# EAGLE library part XC9572XL/TQ100 (library Xilinx)
Xilinx XC9572XL CPLD in a TQ100 package
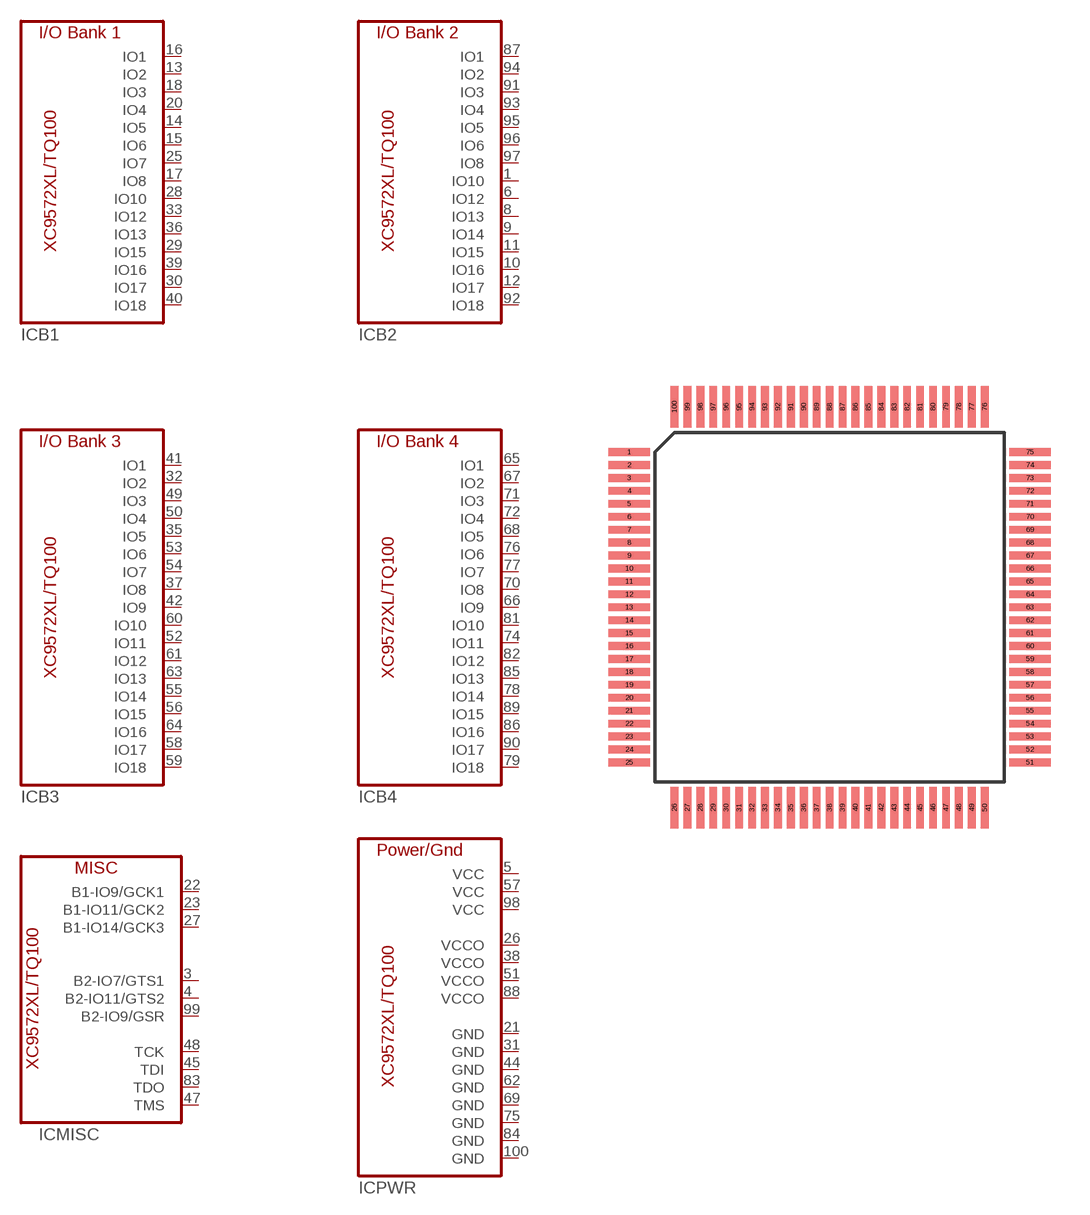
[diagram p28: symbol with the pads of TQ100; footprint TQ100]

Designator prefix IC; gates B1=XC9572XL/TQ100-B1 B2=XC9572XL/TQ100-B2 B3=XC9572XL/TQ100-B3 B4=XC9572XL/TQ100-B4 MISC=XC9572XL/TQ100-MISC PWR=XC9572XL/TQ100-PWR

## XC9572XL/TQ100  [TQ100]
1  B2:IO10
3  MISC:B2-IO7/GTS1
4  MISC:B2-IO11/GTS2
5  PWR:VCC
6  B2:IO12
8  B2:IO13
9  B2:IO14
10  B2:IO16
11  B2:IO15
12  B2:IO17
13  B1:IO2
14  B1:IO5
15  B1:IO6
16  B1:IO1
17  B1:IO8
18  B1:IO3
20  B1:IO4
21  PWR:GND
22  MISC:B1-IO9/GCK1
23  MISC:B1-IO11/GCK2
25  B1:IO7
26  PWR:VCCO
27  MISC:B1-IO14/GCK3
28  B1:IO10
29  B1:IO15
30  B1:IO17
31  PWR:GND
32  B3:IO2
33  B1:IO12
35  B3:IO5
36  B1:IO13
37  B3:IO8
38  PWR:VCCO
39  B1:IO16
40  B1:IO18
41  B3:IO1
42  B3:IO9
44  PWR:GND
45  MISC:TDI
47  MISC:TMS
48  MISC:TCK
49  B3:IO3
50  B3:IO4
51  PWR:VCCO
52  B3:IO11
53  B3:IO6
54  B3:IO7
55  B3:IO14
56  B3:IO15
57  PWR:VCC
58  B3:IO17
59  B3:IO18
60  B3:IO10
61  B3:IO12
62  PWR:GND
63  B3:IO13
64  B3:IO16
65  B4:IO1
66  B4:IO9
67  B4:IO2
68  B4:IO5
69  PWR:GND
70  B4:IO8
71  B4:IO3
72  B4:IO4
74  B4:IO11
75  PWR:GND
76  B4:IO6
77  B4:IO7
78  B4:IO14
79  B4:IO18
81  B4:IO10
82  B4:IO12
83  MISC:TDO
84  PWR:GND
85  B4:IO13
86  B4:IO16
87  B2:IO1
88  PWR:VCCO
89  B4:IO15
90  B4:IO17
91  B2:IO3
92  B2:IO18
93  B2:IO4
94  B2:IO2
95  B2:IO5
96  B2:IO6
97  B2:IO8
98  PWR:VCC
99  MISC:B2-IO9/GSR
100  PWR:GND

## Footprint TQ100 (pad centres in mm)
smd 1.6 x 0.3: 1 -7.75,6; 2 -7.75,5.5; 3 -7.75,5; 4 -7.75,4.5; 5 -7.75,4; 6 -7.75,3.5; 7 -7.75,3; 8 -7.75,2.5; 9 -7.75,2; 10 -7.75,1.5; 11 -7.75,1; 12 -7.75,0.5; 13 -7.75,0; 14 -7.75,-0.5; 15 -7.75,-1; 16 -7.75,-1.5; 17 -7.75,-2; 18 -7.75,-2.5; 19 -7.75,-3; 20 -7.75,-3.5; 21 -7.75,-4; 22 -7.75,-4.5; 23 -7.75,-5; 24 -7.75,-5.5; 25 -7.75,-6; 51 7.75,-6; 52 7.75,-5.5; 53 7.75,-5; 54 7.75,-4.5; 55 7.75,-4; 56 7.75,-3.5; 57 7.75,-3; 58 7.75,-2.5; 59 7.75,-2; 60 7.75,-1.5; 61 7.75,-1; 62 7.75,-0.5; 63 7.75,0; 64 7.75,0.5; 65 7.75,1; 66 7.75,1.5; 67 7.75,2; 68 7.75,2.5; 69 7.75,3; 70 7.75,3.5; 71 7.75,4; 72 7.75,4.5; 73 7.75,5; 74 7.75,5.5; 75 7.75,6
smd 0.3 x 1.6: 26 -6,-7.75; 27 -5.5,-7.75; 28 -5,-7.75; 29 -4.5,-7.75; 30 -4,-7.75; 31 -3.5,-7.75; 32 -3,-7.75; 33 -2.5,-7.75; 34 -2,-7.75; 35 -1.5,-7.75; 36 -1,-7.75; 37 -0.5,-7.75; 38 0,-7.75; 39 0.5,-7.75; 40 1,-7.75; 41 1.5,-7.75; 42 2,-7.75; 43 2.5,-7.75; 44 3,-7.75; 45 3.5,-7.75; 46 4,-7.75; 47 4.5,-7.75; 48 5,-7.75; 49 5.5,-7.75; 50 6,-7.75; 76 6,7.75; 77 5.5,7.75; 78 5,7.75; 79 4.5,7.75; 80 4,7.75; 81 3.5,7.75; 82 3,7.75; 83 2.5,7.75; 84 2,7.75; 85 1.5,7.75; 86 1,7.75; 87 0.5,7.75; 88 0,7.75; 89 -0.5,7.75; 90 -1,7.75; 91 -1.5,7.75; 92 -2,7.75; 93 -2.5,7.75; 94 -3,7.75; 95 -3.5,7.75; 96 -4,7.75; 97 -4.5,7.75; 98 -5,7.75; 99 -5.5,7.75; 100 -6,7.75